# Altium schematic symbol library SSA210.Schlib: 1 symbol
Pins are listed as number, name and electrical type; pins without a type are passive.

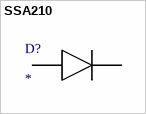
[diagram p0: symbol SSA210]

## SSA210
designator D?
Diode Schottky 60 V 1A (DC) Surface Mount SOD-123F
pins: 1 A, 2 C